# EAGLE library part FSUSB42UMX (library Deegou_IC)
FSUSB42 Series DPDT 4.3 V 480 Mbps SMT Hi Speed USB 2.0 Switch - UMLP-10
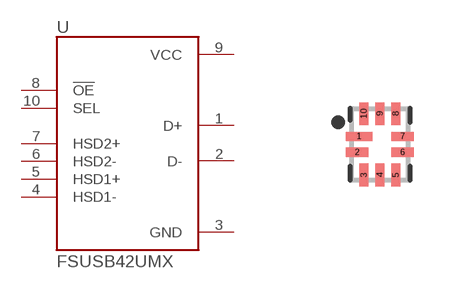
[diagram p33: symbol with the pads of IC_FSUSB42UMX; footprint IC_FSUSB42UMX]

Designator prefix U

## FSUSB42UMX (DESCRIPTION: FSUSB42 Series DPDT 4.3 V 480 Mbps SMT Hi Speed USB 2.0 Switch - UMLP-10; DIGI-KEY_PART_NUMBER: FSUSB42UMXCT-ND; DIGI-KEY_PURCHASE_URL: https://www.digikey.com/product-detail/en/on-semiconductor/FSUSB42UMX/FSUSB42UMXCT-ND/1642629?utm_source=snapeda&utm_medium=aggregator&utm_campaign=symbol; MF: ON Semiconductor; MP: FSUSB42UMX; PACKAGE: UFQFN-10 ON Semiconductor)  [IC_FSUSB42UMX]
1  D+
2  D-
3  GND  pwr
4  HSD1-  in
5  HSD1+  in
6  HSD2-  in
7  HSD2+  in
8  !OE  in
9  VCC  pwr
10  SEL  in

## Footprint IC_FSUSB42UMX (pad centres in mm)
smd 0.663 x 0.225: 1 -0.518,0.2
smd 0.563 x 0.225: 2 -0.569,-0.2; 6 0.569,-0.2; 7 0.569,0.2
smd 0.225 x 0.563: 3 -0.4,-0.768; 4 0,-0.768; 5 0.4,-0.768; 8 0.4,0.768; 9 0,0.768; 10 -0.4,0.768